# EAGLE library part LM62435BPPQRJRRQ1 (library ADC)
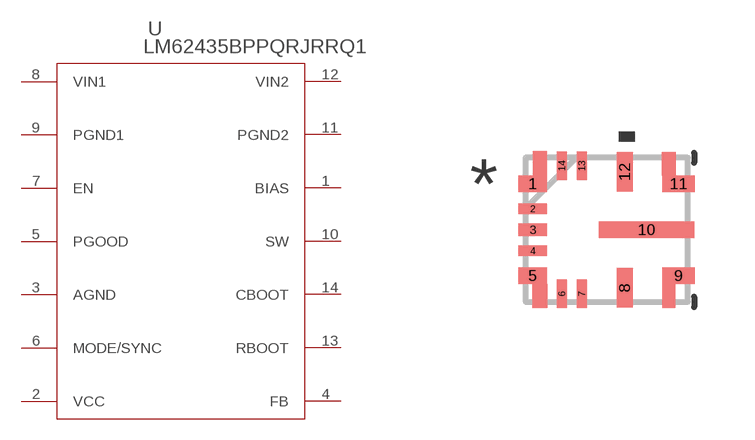
[diagram p2: symbol with the pads of VQFN-HR14_RJR_TEX; footprint VQFN-HR14_RJR_TEX]

Designator prefix U

## LM62435BPPQRJRRQ1 (COPYRIGHT: Copyright (C) 2021 Ultra Librarian. All rights reserved.; DIGI-KEY_PART_NUMBER_1: 296-LM62435BPPQRJRRQ1TR-ND; MANUFACTURER_PART_NUMBER: LM62435BPPQRJRRQ1; MFR_NAME: Texas Instruments)  [VQFN-HR14_RJR_TEX]
1  BIAS  pas
2  VCC  pwr
3  AGND  pas
4  FB  pas
5  PGOOD  nc
6  MODE/SYNC  pas
7  EN  pas
8  VIN1  in
9  PGND1  pas
10  SW  pas
11  PGND2  pas
12  VIN2  in
13  RBOOT  pas
14  CBOOT  pas

## Footprint VQFN-HR14_RJR_TEX (pad centres in mm)
smd 0.711 x 0.406: 1 -1.85,1.15; 5 -1.85,-1.15
smd 0.711 x 0.254: 2 -1.85,0.525; 4 -1.85,-0.525
smd 0.711 x 0.305: 3 -1.85,0
smd 0.254 x 0.711: 6 -1.125,-1.6; 7 -0.625,-1.6; 13 -0.625,1.6; 14 -1.125,1.6
smd 0.406 x 0.991: 8 0.45,-1.45; 12 0.45,1.45
smd 0.813 x 0.406: 9 1.8,-1.15; 11 1.8,1.15
smd 2.388 x 0.406: 10 1,0